# Altium integrated library Philips Discrete BJT - Low Power.IntLib: 311 symbols (part 1 of 5)
Pins are listed as number, name and electrical type; pins without a type are passive.

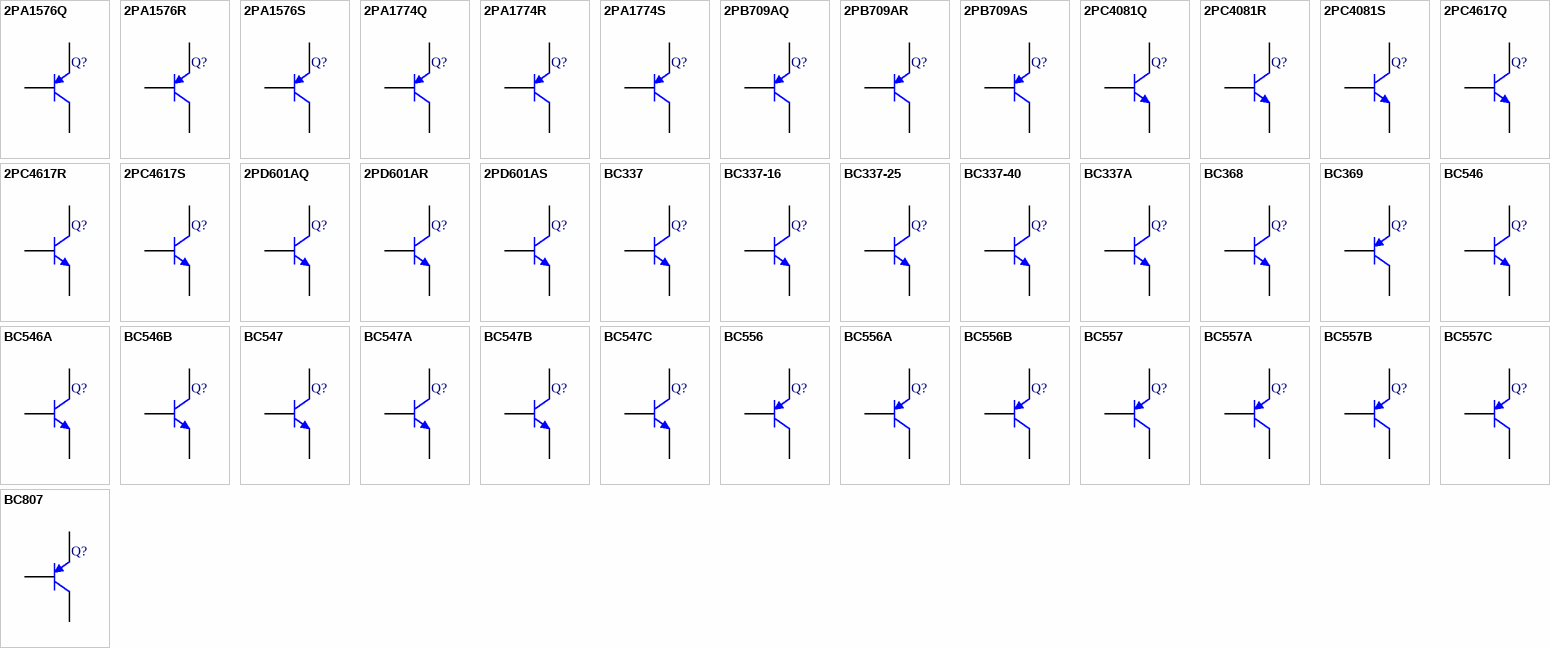
[diagram p0: symbols 2PA1576Q to BC807]

## 2PA1576Q
designator Q?
PNP General-purpose Transistor; Published: 17-Sep-2003; DatasheetVersion: 31-May-1999; PackageVersion: Apr-1999; PackageReference: SOT323; Publisher: Altium Limited; PackageDescription: SOT-323/SC-70; 3 Leads; Body 2.2 x 2.2 mm, inc. leads (LxW max); ComponentLink1Description: Manufacturer Link; ComponentLink1URL: http://www.semiconductors.philips.com/; ComponentLink2Description: Datasheet; ComponentLink2URL: http://www.semiconductors.philips.com/acrobat/datasheets/2PA1576_4.pdf
footprint SOT323 (SOT-323/SC-70; 3 Leads; Body 2.2 x 2.2 mm, inc. leads (LxW max))
simulation model Q2PA1576Q (PNP)
signal-integrity model 2PA1576Q
pins: 1 B, 2 E, 3 C

## 2PA1576R
designator Q?
PNP General-purpose Transistor; Published: 17-Sep-2003; DatasheetVersion: 31-May-1999; PackageVersion: Apr-1999; PackageReference: SOT323; Publisher: Altium Limited; PackageDescription: SOT-323/SC-70; 3 Leads; Body 2.2 x 2.2 mm, inc. leads (LxW max); ComponentLink1Description: Manufacturer Link; ComponentLink1URL: http://www.semiconductors.philips.com/; ComponentLink2Description: Datasheet; ComponentLink2URL: http://www.semiconductors.philips.com/acrobat/datasheets/2PA1576_4.pdf
footprint SOT323 (SOT-323/SC-70; 3 Leads; Body 2.2 x 2.2 mm, inc. leads (LxW max))
simulation model Q2PA1576R (PNP)
signal-integrity model 2PA1576R
pins: 1 B, 2 E, 3 C

## 2PA1576S
designator Q?
PNP General-purpose Transistor; Published: 17-Sep-2003; DatasheetVersion: 31-May-1999; PackageVersion: Apr-1999; PackageReference: SOT323; Publisher: Altium Limited; PackageDescription: SOT-323/SC-70; 3 Leads; Body 2.2 x 2.2 mm, inc. leads (LxW max); ComponentLink1Description: Manufacturer Link; ComponentLink1URL: http://www.semiconductors.philips.com/; ComponentLink2Description: Datasheet; ComponentLink2URL: http://www.semiconductors.philips.com/acrobat/datasheets/2PA1576_4.pdf
footprint SOT323 (SOT-323/SC-70; 3 Leads; Body 2.2 x 2.2 mm, inc. leads (LxW max))
simulation model Q2PA1576S (PNP)
signal-integrity model 2PA1576S
pins: 1 B, 2 E, 3 C

## 2PA1774Q
designator Q?
PNP General-purpose Transistor; Published: 17-Sep-2003; DatasheetVersion: 12-Dec-2000; PackageVersion: Apr-1999; PackageReference: SOT416; Publisher: Altium Limited; PackageDescription: SOT-416/SC-90/SC-75; 3 Leads; Body 1.8 x 1.8 mm, inc. leads (LxW max); ComponentLink1Description: Manufacturer Link; ComponentLink1URL: http://www.semiconductors.philips.com/; ComponentLink2Description: Datasheet; ComponentLink2URL: http://www.semiconductors.philips.com/acrobat/datasheets/2PA1774_3.pdf
footprint SOT416 (SOT-416/SC-90/SC-75; 3 Leads; Body 1.8 x 1.8 mm, inc. leads (LxW max))
simulation model Q2PA1774Q (PNP)
signal-integrity model 2PA1774Q
pins: 1 B, 2 E, 3 C

## 2PA1774R
designator Q?
PNP General-purpose Transistor; Published: 17-Sep-2003; DatasheetVersion: 12-Dec-2000; PackageVersion: Apr-1999; PackageReference: SOT416; Publisher: Altium Limited; PackageDescription: SOT-416/SC-90/SC-75; 3 Leads; Body 1.8 x 1.8 mm, inc. leads (LxW max); ComponentLink1Description: Manufacturer Link; ComponentLink1URL: http://www.semiconductors.philips.com/; ComponentLink2Description: Datasheet; ComponentLink2URL: http://www.semiconductors.philips.com/acrobat/datasheets/2PA1774_3.pdf
footprint SOT416 (SOT-416/SC-90/SC-75; 3 Leads; Body 1.8 x 1.8 mm, inc. leads (LxW max))
simulation model Q2PA1774R (PNP)
signal-integrity model 2PA1774R
pins: 1 B, 2 E, 3 C

## 2PA1774S
designator Q?
PNP General-purpose Transistor; Published: 17-Sep-2003; DatasheetVersion: 12-Dec-2000; PackageVersion: Apr-1999; PackageReference: SOT416; Publisher: Altium Limited; PackageDescription: SOT-416/SC-90/SC-75; 3 Leads; Body 1.8 x 1.8 mm, inc. leads (LxW max); ComponentLink1Description: Manufacturer Link; ComponentLink1URL: http://www.semiconductors.philips.com/; ComponentLink2Description: Datasheet; ComponentLink2URL: http://www.semiconductors.philips.com/acrobat/datasheets/2PA1774_3.pdf
footprint SOT416 (SOT-416/SC-90/SC-75; 3 Leads; Body 1.8 x 1.8 mm, inc. leads (LxW max))
simulation model Q2PA1774S (PNP)
signal-integrity model 2PA1774S
pins: 1 B, 2 E, 3 C

## 2PB709AQ
designator Q?
PNP General-purpose Transistor; Published: 17-Sep-2003; DatasheetVersion: 23-Apr-1999; PackageVersion: Apr-1999; PackageReference: SOT346; Publisher: Altium Limited; PackageDescription: SOT-23; 3 Leads; Body 3.1 x 3.0 mm, inc. leads (LxW max); Code_JEDEC: TO-236; ComponentLink1Description: Manufacturer Link; ComponentLink1URL: http://www.semiconductors.philips.com/; ComponentLink2Description: Datasheet; ComponentLink2URL: http://www.semiconductors.philips.com/acrobat/datasheets/2PB709A_4.pdf
footprint SOT346 (SOT-23; 3 Leads; Body 3.1 x 3.0 mm, inc. leads (LxW max))
signal-integrity model 2PB709AQ
pins: 1 B, 2 E, 3 C

## 2PB709AR
designator Q?
PNP General-purpose Transistor; Published: 17-Sep-2003; DatasheetVersion: 23-Apr-1999; PackageVersion: Apr-1999; PackageReference: SOT346; Publisher: Altium Limited; PackageDescription: SOT-23; 3 Leads; Body 3.1 x 3.0 mm, inc. leads (LxW max); Code_JEDEC: TO-236; ComponentLink1Description: Manufacturer Link; ComponentLink1URL: http://www.semiconductors.philips.com/; ComponentLink2Description: Datasheet; ComponentLink2URL: http://www.semiconductors.philips.com/acrobat/datasheets/2PB709A_4.pdf
footprint SOT346 (SOT-23; 3 Leads; Body 3.1 x 3.0 mm, inc. leads (LxW max))
simulation model 2PB709AR (SUBCKT)
signal-integrity model 2PB709AR
pins: 1 B, 2 E, 3 C

## 2PB709AS
designator Q?
PNP General-purpose Transistor; Published: 17-Sep-2003; DatasheetVersion: 23-Apr-1999; PackageVersion: Apr-1999; PackageReference: SOT346; Publisher: Altium Limited; PackageDescription: SOT-23; 3 Leads; Body 3.1 x 3.0 mm, inc. leads (LxW max); Code_JEDEC: TO-236; ComponentLink1Description: Manufacturer Link; ComponentLink1URL: http://www.semiconductors.philips.com/; ComponentLink2Description: Datasheet; ComponentLink2URL: http://www.semiconductors.philips.com/acrobat/datasheets/2PB709A_4.pdf
footprint SOT346 (SOT-23; 3 Leads; Body 3.1 x 3.0 mm, inc. leads (LxW max))
signal-integrity model 2PB709AS
pins: 1 B, 2 E, 3 C

## 2PC4081Q
designator Q?
NPN General-purpose Transistor; Published: 17-Sep-2003; DatasheetVersion: 8-Apr-1999; PackageVersion: Apr-1999; PackageReference: SOT323; Publisher: Altium Limited; PackageDescription: SOT-323/SC-70; 3 Leads; Body 2.2 x 2.2 mm, inc. leads (LxW max); ComponentLink1Description: Manufacturer Link; ComponentLink1URL: http://www.semiconductors.philips.com/; ComponentLink2Description: Datasheet; ComponentLink2URL: http://www.semiconductors.philips.com/acrobat/datasheets/2PC4081_4.pdf
footprint SOT323 (SOT-323/SC-70; 3 Leads; Body 2.2 x 2.2 mm, inc. leads (LxW max))
simulation model Q2PC4081Q (NPN)
signal-integrity model 2PC4081Q
pins: 1 B, 2 E, 3 C

## 2PC4081R
designator Q?
NPN General-purpose Transistor; Published: 17-Sep-2003; DatasheetVersion: 8-Apr-1999; PackageVersion: Apr-1999; PackageReference: SOT323; Publisher: Altium Limited; PackageDescription: SOT-323/SC-70; 3 Leads; Body 2.2 x 2.2 mm, inc. leads (LxW max); ComponentLink1Description: Manufacturer Link; ComponentLink1URL: http://www.semiconductors.philips.com/; ComponentLink2Description: Datasheet; ComponentLink2URL: http://www.semiconductors.philips.com/acrobat/datasheets/2PC4081_4.pdf
footprint SOT323 (SOT-323/SC-70; 3 Leads; Body 2.2 x 2.2 mm, inc. leads (LxW max))
simulation model Q2PC4081R (NPN)
signal-integrity model 2PC4081R
pins: 1 B, 2 E, 3 C

## 2PC4081S
designator Q?
NPN General-purpose Transistor; Published: 17-Sep-2003; DatasheetVersion: 8-Apr-1999; PackageVersion: Apr-1999; PackageReference: SOT323; Publisher: Altium Limited; PackageDescription: SOT-323/SC-70; 3 Leads; Body 2.2 x 2.2 mm, inc. leads (LxW max); ComponentLink1Description: Manufacturer Link; ComponentLink1URL: http://www.semiconductors.philips.com/; ComponentLink2Description: Datasheet; ComponentLink2URL: http://www.semiconductors.philips.com/acrobat/datasheets/2PC4081_4.pdf
footprint SOT323 (SOT-323/SC-70; 3 Leads; Body 2.2 x 2.2 mm, inc. leads (LxW max))
simulation model Q2PC4081S (NPN)
signal-integrity model 2PC4081S
pins: 1 B, 2 E, 3 C

## 2PC4617Q
designator Q?
NPN General-purpose Transistor; Published: 17-Sep-2003; DatasheetVersion: 21-May-1999; PackageVersion: Apr-1999; PackageReference: SOT416; Publisher: Altium Limited; PackageDescription: SOT-416/SC-90/SC-75; 3 Leads; Body 1.8 x 1.8 mm, inc. leads (LxW max); ComponentLink1Description: Manufacturer Link; ComponentLink1URL: http://www.semiconductors.philips.com/; ComponentLink2Description: Datasheet; ComponentLink2URL: http://www.semiconductors.philips.com/acrobat/datasheets/2PC4617_3.pdf
footprint SOT416 (SOT-416/SC-90/SC-75; 3 Leads; Body 1.8 x 1.8 mm, inc. leads (LxW max))
simulation model Q2PC4617Q (NPN)
signal-integrity model 2PC4617Q
pins: 1 B, 2 E, 3 C

## 2PC4617R
designator Q?
NPN General-purpose Transistor; Published: 17-Sep-2003; DatasheetVersion: 21-May-1999; PackageVersion: Apr-1999; PackageReference: SOT416; Publisher: Altium Limited; PackageDescription: SOT-416/SC-90/SC-75; 3 Leads; Body 1.8 x 1.8 mm, inc. leads (LxW max); ComponentLink1Description: Manufacturer Link; ComponentLink1URL: http://www.semiconductors.philips.com/; ComponentLink2Description: Datasheet; ComponentLink2URL: http://www.semiconductors.philips.com/acrobat/datasheets/2PC4617_3.pdf
footprint SOT416 (SOT-416/SC-90/SC-75; 3 Leads; Body 1.8 x 1.8 mm, inc. leads (LxW max))
simulation model Q2PC4617R (NPN)
signal-integrity model 2PC4617R
pins: 1 B, 2 E, 3 C

## 2PC4617S
designator Q?
NPN General-purpose Transistor; Published: 17-Sep-2003; DatasheetVersion: 21-May-1999; PackageVersion: Apr-1999; PackageReference: SOT416; Publisher: Altium Limited; PackageDescription: SOT-416/SC-90/SC-75; 3 Leads; Body 1.8 x 1.8 mm, inc. leads (LxW max); ComponentLink1Description: Manufacturer Link; ComponentLink1URL: http://www.semiconductors.philips.com/; ComponentLink2Description: Datasheet; ComponentLink2URL: http://www.semiconductors.philips.com/acrobat/datasheets/2PC4617_3.pdf
footprint SOT416 (SOT-416/SC-90/SC-75; 3 Leads; Body 1.8 x 1.8 mm, inc. leads (LxW max))
simulation model Q2PC4617S (NPN)
signal-integrity model 2PC4617S
pins: 1 B, 2 E, 3 C

## 2PD601AQ
designator Q?
NPN General-purpose Transistor; Published: 17-Sep-2003; DatasheetVersion: 19-Nov-2001; PackageVersion: Apr-1999; PackageReference: SOT346; Publisher: Altium Limited; PackageDescription: SOT-23; 3 Leads; Body 3.1 x 3.0 mm, inc. leads (LxW max); Code_JEDEC: TO-236; ComponentLink1Description: Manufacturer Link; ComponentLink1URL: http://www.semiconductors.philips.com/; ComponentLink2Description: Datasheet; ComponentLink2URL: http://www.semiconductors.philips.com/acrobat/datasheets/2PD601A_SER_6.pdf
footprint SOT346 (SOT-23; 3 Leads; Body 3.1 x 3.0 mm, inc. leads (LxW max))
signal-integrity model 2PD601AQ
pins: 1 B, 2 E, 3 C

## 2PD601AR
designator Q?
NPN General-purpose Transistor; Published: 17-Sep-2003; DatasheetVersion: 19-Nov-2001; PackageVersion: Apr-1999; PackageReference: SOT346; Publisher: Altium Limited; PackageDescription: SOT-23; 3 Leads; Body 3.1 x 3.0 mm, inc. leads (LxW max); Code_JEDEC: TO-236; ComponentLink1Description: Manufacturer Link; ComponentLink1URL: http://www.semiconductors.philips.com/; ComponentLink2Description: Datasheet; ComponentLink2URL: http://www.semiconductors.philips.com/acrobat/datasheets/2PD601A_SER_6.pdf
footprint SOT346 (SOT-23; 3 Leads; Body 3.1 x 3.0 mm, inc. leads (LxW max))
simulation model 2PD601AR (SUBCKT)
signal-integrity model 2PD601AR
pins: 1 B, 2 E, 3 C

## 2PD601AS
designator Q?
NPN General-purpose Transistor; Published: 17-Sep-2003; DatasheetVersion: 19-Nov-2001; PackageVersion: Apr-1999; PackageReference: SOT346; Publisher: Altium Limited; PackageDescription: SOT-23; 3 Leads; Body 3.1 x 3.0 mm, inc. leads (LxW max); Code_JEDEC: TO-236; ComponentLink1Description: Manufacturer Link; ComponentLink1URL: http://www.semiconductors.philips.com/; ComponentLink2Description: Datasheet; ComponentLink2URL: http://www.semiconductors.philips.com/acrobat/datasheets/2PD601A_SER_6.pdf
footprint SOT346 (SOT-23; 3 Leads; Body 3.1 x 3.0 mm, inc. leads (LxW max))
signal-integrity model 2PD601AS
pins: 1 B, 2 E, 3 C

## BC337
designator Q?
NPN General-purpose Transistor; Published: 17-Sep-2003; DatasheetVersion: 15-Apr-1999; PackageVersion: rev3, May-2000; PackageReference: SOT54; Publisher: Altium Limited; PackageDescription: TO, Flat Index; 3 In-Line, Axial Leads; Body Dia. 4.6mm; Leads 0.48 x 0.45 mm (max); Code_JEDEC: TO-92; ComponentLink1Description: Manufacturer Link; ComponentLink1URL: http://www.semiconductors.philips.com/; ComponentLink2Description: Datasheet; ComponentLink2URL: http://www.semiconductors.philips.com/acrobat/datasheets/BC817_BC817W_BC337_5.pdf
footprint SOT54 (TO, Flat Index; 3 In-Line, Axial Leads; Body Dia. 4.6mm; Leads 0.48 x 0.45 mm (max))
simulation model QBC337 (NPN)
signal-integrity model BC337
pins: 1 E, 2 B, 3 C

## BC337-16
designator Q?
NPN General-purpose Transistor; Published: 17-Sep-2003; DatasheetVersion: 15-Apr-1999; PackageVersion: rev3, May-2000; PackageReference: SOT54; Publisher: Altium Limited; PackageDescription: TO, Flat Index; 3 In-Line, Axial Leads; Body Dia. 4.6mm; Leads 0.48 x 0.45 mm (max); Code_JEDEC: TO-92; ComponentLink1Description: Manufacturer Link; ComponentLink1URL: http://www.semiconductors.philips.com/; ComponentLink2Description: Datasheet; ComponentLink2URL: http://www.semiconductors.philips.com/acrobat/datasheets/BC817_BC817W_BC337_5.pdf
footprint SOT54 (TO, Flat Index; 3 In-Line, Axial Leads; Body Dia. 4.6mm; Leads 0.48 x 0.45 mm (max))
simulation model QBC337-16 (NPN)
signal-integrity model BC337-16
pins: 1 E, 2 B, 3 C

## BC337-25
designator Q?
NPN General-purpose Transistor; Published: 17-Sep-2003; DatasheetVersion: 15-Apr-1999; PackageVersion: rev3, May-2000; PackageReference: SOT54; Publisher: Altium Limited; PackageDescription: TO, Flat Index; 3 In-Line, Axial Leads; Body Dia. 4.6mm; Leads 0.48 x 0.45 mm (max); Code_JEDEC: TO-92; ComponentLink1Description: Manufacturer Link; ComponentLink1URL: http://www.semiconductors.philips.com/; ComponentLink2Description: Datasheet; ComponentLink2URL: http://www.semiconductors.philips.com/acrobat/datasheets/BC817_BC817W_BC337_5.pdf
footprint SOT54 (TO, Flat Index; 3 In-Line, Axial Leads; Body Dia. 4.6mm; Leads 0.48 x 0.45 mm (max))
simulation model QBC337-25 (NPN)
signal-integrity model BC337-25
pins: 1 E, 2 B, 3 C

## BC337-40
designator Q?
NPN General-purpose Transistor; Published: 17-Sep-2003; DatasheetVersion: 15-Apr-1999; PackageVersion: rev3, May-2000; PackageReference: SOT54; Publisher: Altium Limited; PackageDescription: TO, Flat Index; 3 In-Line, Axial Leads; Body Dia. 4.6mm; Leads 0.48 x 0.45 mm (max); Code_JEDEC: TO-92; ComponentLink1Description: Manufacturer Link; ComponentLink1URL: http://www.semiconductors.philips.com/; ComponentLink2Description: Datasheet; ComponentLink2URL: http://www.semiconductors.philips.com/acrobat/datasheets/BC817_BC817W_BC337_5.pdf
footprint SOT54 (TO, Flat Index; 3 In-Line, Axial Leads; Body Dia. 4.6mm; Leads 0.48 x 0.45 mm (max))
simulation model QBC337-40 (NPN)
signal-integrity model BC337-40
pins: 1 E, 2 B, 3 C

## BC337A
designator Q?
NPN General-purpose Transistor; Published: 17-Sep-2003; DatasheetVersion: 15-Apr-1999; PackageVersion: rev3, May-2000; PackageReference: SOT54; Publisher: Altium Limited; PackageDescription: TO, Flat Index; 3 In-Line, Axial Leads; Body Dia. 4.6mm; Leads 0.48 x 0.45 mm (max); Code_JEDEC: TO-92; ComponentLink1Description: Manufacturer Link; ComponentLink1URL: http://www.semiconductors.philips.com/; ComponentLink2Description: Datasheet; ComponentLink2URL: http://www.semiconductors.philips.com/acrobat/datasheets/BC817_BC817W_BC337_5.pdf
footprint SOT54 (TO, Flat Index; 3 In-Line, Axial Leads; Body Dia. 4.6mm; Leads 0.48 x 0.45 mm (max))
simulation model QBC337A (NPN)
signal-integrity model BC337A
pins: 1 E, 2 B, 3 C

## BC368
designator Q?
NPN General-purpose Transistor; Published: 17-Sep-2003; DatasheetVersion: 26-Apr-1999; PackageVersion: rev3, May-2000; PackageReference: SOT54; Publisher: Altium Limited; PackageDescription: TO, Flat Index; 3 In-Line, Axial Leads; Body Dia. 4.6mm; Leads 0.48 x 0.45 mm (max); Code_JEDEC: TO-92; ComponentLink1Description: Manufacturer Link; ComponentLink1URL: http://www.semiconductors.philips.com/; ComponentLink2Description: Datasheet; ComponentLink2URL: http://www.semiconductors.philips.com/acrobat/datasheets/BC368_3.pdf
footprint SOT54 (TO, Flat Index; 3 In-Line, Axial Leads; Body Dia. 4.6mm; Leads 0.48 x 0.45 mm (max))
simulation model QBC368 (NPN)
signal-integrity model BC368
pins: 1 B, 2 C, 3 E

## BC369
designator Q?
PNP General-purpose Transistor; Published: 17-Sep-2003; DatasheetVersion: 26-Apr-1999; PackageVersion: rev3, May-2000; PackageReference: SOT54; Publisher: Altium Limited; PackageDescription: TO, Flat Index; 3 In-Line, Axial Leads; Body Dia. 4.6mm; Leads 0.48 x 0.45 mm (max); Code_JEDEC: TO-92; ComponentLink1Description: Manufacturer Link; ComponentLink1URL: http://www.semiconductors.philips.com/; ComponentLink2Description: Datasheet; ComponentLink2URL: http://www.semiconductors.philips.com/acrobat/datasheets/BC369_3.pdf
footprint SOT54 (TO, Flat Index; 3 In-Line, Axial Leads; Body Dia. 4.6mm; Leads 0.48 x 0.45 mm (max))
simulation model QBC369 (PNP)
signal-integrity model BC369
pins: 1 B, 2 C, 3 E

## BC546
designator Q?
NPN General-purpose Transistor; Published: 17-Sep-2003; DatasheetVersion: 15-Apr-1999; PackageVersion: rev3, May-2000; PackageReference: SOT54; Publisher: Altium Limited; PackageDescription: TO, Flat Index; 3 In-Line, Axial Leads; Body Dia. 4.6mm; Leads 0.48 x 0.45 mm (max); Code_JEDEC: TO-92; ComponentLink1Description: Manufacturer Link; ComponentLink1URL: http://www.semiconductors.philips.com/; ComponentLink2Description: Datasheet; ComponentLink2URL: http://www.semiconductors.philips.com/acrobat/datasheets/BC546_547_3.pdf
footprint SOT54 (TO, Flat Index; 3 In-Line, Axial Leads; Body Dia. 4.6mm; Leads 0.48 x 0.45 mm (max))
signal-integrity model BC546
pins: 1 E, 2 B, 3 C

## BC546A
designator Q?
NPN General-purpose Transistor; Published: 17-Sep-2003; DatasheetVersion: 15-Apr-1999; PackageVersion: rev3, May-2000; PackageReference: SOT54; Publisher: Altium Limited; PackageDescription: TO, Flat Index; 3 In-Line, Axial Leads; Body Dia. 4.6mm; Leads 0.48 x 0.45 mm (max); Code_JEDEC: TO-92; ComponentLink1Description: Manufacturer Link; ComponentLink1URL: http://www.semiconductors.philips.com/; ComponentLink2Description: Datasheet; ComponentLink2URL: http://www.semiconductors.philips.com/acrobat/datasheets/BC546_547_3.pdf
footprint SOT54 (TO, Flat Index; 3 In-Line, Axial Leads; Body Dia. 4.6mm; Leads 0.48 x 0.45 mm (max))
simulation model QBC546A (NPN)
signal-integrity model BC546A
pins: 1 E, 2 B, 3 C

## BC546B
designator Q?
NPN General-purpose Transistor; Published: 17-Sep-2003; DatasheetVersion: 15-Apr-1999; PackageVersion: rev3, May-2000; PackageReference: SOT54; Publisher: Altium Limited; PackageDescription: TO, Flat Index; 3 In-Line, Axial Leads; Body Dia. 4.6mm; Leads 0.48 x 0.45 mm (max); Code_JEDEC: TO-92; ComponentLink1Description: Manufacturer Link; ComponentLink1URL: http://www.semiconductors.philips.com/; ComponentLink2Description: Datasheet; ComponentLink2URL: http://www.semiconductors.philips.com/acrobat/datasheets/BC546_547_3.pdf
footprint SOT54 (TO, Flat Index; 3 In-Line, Axial Leads; Body Dia. 4.6mm; Leads 0.48 x 0.45 mm (max))
simulation model QBC546B (NPN)
signal-integrity model BC546B
pins: 1 E, 2 B, 3 C

## BC547
designator Q?
NPN General-purpose Transistor; Published: 17-Sep-2003; DatasheetVersion: 15-Apr-1999; PackageVersion: rev3, May-2000; PackageReference: SOT54; Publisher: Altium Limited; PackageDescription: TO, Flat Index; 3 In-Line, Axial Leads; Body Dia. 4.6mm; Leads 0.48 x 0.45 mm (max); Code_JEDEC: TO-92; ComponentLink1Description: Manufacturer Link; ComponentLink1URL: http://www.semiconductors.philips.com/; ComponentLink2Description: Datasheet; ComponentLink2URL: http://www.semiconductors.philips.com/acrobat/datasheets/BC546_547_3.pdf
footprint SOT54 (TO, Flat Index; 3 In-Line, Axial Leads; Body Dia. 4.6mm; Leads 0.48 x 0.45 mm (max))
signal-integrity model BC547
pins: 1 E, 2 B, 3 C

## BC547A
designator Q?
NPN General-purpose Transistor; Published: 17-Sep-2003; DatasheetVersion: 15-Apr-1999; PackageVersion: rev3, May-2000; PackageReference: SOT54; Publisher: Altium Limited; PackageDescription: TO, Flat Index; 3 In-Line, Axial Leads; Body Dia. 4.6mm; Leads 0.48 x 0.45 mm (max); Code_JEDEC: TO-92; ComponentLink1Description: Manufacturer Link; ComponentLink1URL: http://www.semiconductors.philips.com/; ComponentLink2Description: Datasheet; ComponentLink2URL: http://www.semiconductors.philips.com/acrobat/datasheets/BC546_547_3.pdf
footprint SOT54 (TO, Flat Index; 3 In-Line, Axial Leads; Body Dia. 4.6mm; Leads 0.48 x 0.45 mm (max))
simulation model QBC547A (NPN)
signal-integrity model BC547A
pins: 1 E, 2 B, 3 C

## BC547B
designator Q?
NPN General-purpose Transistor; Published: 17-Sep-2003; DatasheetVersion: 15-Apr-1999; PackageVersion: rev3, May-2000; PackageReference: SOT54; Publisher: Altium Limited; PackageDescription: TO, Flat Index; 3 In-Line, Axial Leads; Body Dia. 4.6mm; Leads 0.48 x 0.45 mm (max); Code_JEDEC: TO-92; ComponentLink1Description: Manufacturer Link; ComponentLink1URL: http://www.semiconductors.philips.com/; ComponentLink2Description: Datasheet; ComponentLink2URL: http://www.semiconductors.philips.com/acrobat/datasheets/BC546_547_3.pdf
footprint SOT54 (TO, Flat Index; 3 In-Line, Axial Leads; Body Dia. 4.6mm; Leads 0.48 x 0.45 mm (max))
simulation model QBC547B (NPN)
signal-integrity model BC547B
pins: 1 E, 2 B, 3 C

## BC547C
designator Q?
NPN General-purpose Transistor; Published: 17-Sep-2003; DatasheetVersion: 15-Apr-1999; PackageVersion: rev3, May-2000; PackageReference: SOT54; Publisher: Altium Limited; PackageDescription: TO, Flat Index; 3 In-Line, Axial Leads; Body Dia. 4.6mm; Leads 0.48 x 0.45 mm (max); Code_JEDEC: TO-92; ComponentLink1Description: Manufacturer Link; ComponentLink1URL: http://www.semiconductors.philips.com/; ComponentLink2Description: Datasheet; ComponentLink2URL: http://www.semiconductors.philips.com/acrobat/datasheets/BC546_547_3.pdf
footprint SOT54 (TO, Flat Index; 3 In-Line, Axial Leads; Body Dia. 4.6mm; Leads 0.48 x 0.45 mm (max))
simulation model QBC547C (NPN)
signal-integrity model BC547C
pins: 1 E, 2 B, 3 C

## BC556
designator Q?
PNP General-purpose Transistor; Published: 17-Sep-2003; DatasheetVersion: 15-Apr-1999; PackageVersion: rev3, May-2000; PackageReference: SOT54; Publisher: Altium Limited; PackageDescription: TO, Flat Index; 3 In-Line, Axial Leads; Body Dia. 4.6mm; Leads 0.48 x 0.45 mm (max); Code_JEDEC: TO-92; ComponentLink1Description: Manufacturer Link; ComponentLink1URL: http://www.semiconductors.philips.com/; ComponentLink2Description: Datasheet; ComponentLink2URL: http://www.semiconductors.philips.com/acrobat/datasheets/BC556_557_3.pdf
footprint SOT54 (TO, Flat Index; 3 In-Line, Axial Leads; Body Dia. 4.6mm; Leads 0.48 x 0.45 mm (max))
signal-integrity model BC556
pins: 1 E, 2 B, 3 C

## BC556A
designator Q?
PNP General-purpose Transistor; Published: 17-Sep-2003; DatasheetVersion: 15-Apr-1999; PackageVersion: rev3, May-2000; PackageReference: SOT54; Publisher: Altium Limited; PackageDescription: TO, Flat Index; 3 In-Line, Axial Leads; Body Dia. 4.6mm; Leads 0.48 x 0.45 mm (max); Code_JEDEC: TO-92; ComponentLink1Description: Manufacturer Link; ComponentLink1URL: http://www.semiconductors.philips.com/; ComponentLink2Description: Datasheet; ComponentLink2URL: http://www.semiconductors.philips.com/acrobat/datasheets/BC556_557_3.pdf
footprint SOT54 (TO, Flat Index; 3 In-Line, Axial Leads; Body Dia. 4.6mm; Leads 0.48 x 0.45 mm (max))
simulation model QBC556A (PNP)
signal-integrity model BC556A
pins: 1 E, 2 B, 3 C

## BC556B
designator Q?
PNP General-purpose Transistor; Published: 17-Sep-2003; DatasheetVersion: 15-Apr-1999; PackageVersion: rev3, May-2000; PackageReference: SOT54; Publisher: Altium Limited; PackageDescription: TO, Flat Index; 3 In-Line, Axial Leads; Body Dia. 4.6mm; Leads 0.48 x 0.45 mm (max); Code_JEDEC: TO-92; ComponentLink1Description: Manufacturer Link; ComponentLink1URL: http://www.semiconductors.philips.com/; ComponentLink2Description: Datasheet; ComponentLink2URL: http://www.semiconductors.philips.com/acrobat/datasheets/BC556_557_3.pdf
footprint SOT54 (TO, Flat Index; 3 In-Line, Axial Leads; Body Dia. 4.6mm; Leads 0.48 x 0.45 mm (max))
simulation model QBC556B (PNP)
signal-integrity model BC556B
pins: 1 E, 2 B, 3 C

## BC557
designator Q?
PNP General-purpose Transistor; Published: 17-Sep-2003; DatasheetVersion: 15-Apr-1999; PackageVersion: rev3, May-2000; PackageReference: SOT54; Publisher: Altium Limited; PackageDescription: TO, Flat Index; 3 In-Line, Axial Leads; Body Dia. 4.6mm; Leads 0.48 x 0.45 mm (max); Code_JEDEC: TO-92; ComponentLink1Description: Manufacturer Link; ComponentLink1URL: http://www.semiconductors.philips.com/; ComponentLink2Description: Datasheet; ComponentLink2URL: http://www.semiconductors.philips.com/acrobat/datasheets/BC556_557_3.pdf
footprint SOT54 (TO, Flat Index; 3 In-Line, Axial Leads; Body Dia. 4.6mm; Leads 0.48 x 0.45 mm (max))
signal-integrity model BC557
pins: 1 E, 2 B, 3 C

## BC557A
designator Q?
PNP General-purpose Transistor; Published: 17-Sep-2003; DatasheetVersion: 15-Apr-1999; PackageVersion: rev3, May-2000; PackageReference: SOT54; Publisher: Altium Limited; PackageDescription: TO, Flat Index; 3 In-Line, Axial Leads; Body Dia. 4.6mm; Leads 0.48 x 0.45 mm (max); Code_JEDEC: TO-92; ComponentLink1Description: Manufacturer Link; ComponentLink1URL: http://www.semiconductors.philips.com/; ComponentLink2Description: Datasheet; ComponentLink2URL: http://www.semiconductors.philips.com/acrobat/datasheets/BC556_557_3.pdf
footprint SOT54 (TO, Flat Index; 3 In-Line, Axial Leads; Body Dia. 4.6mm; Leads 0.48 x 0.45 mm (max))
simulation model QBC557A (PNP)
signal-integrity model BC557A
pins: 1 E, 2 B, 3 C

## BC557B
designator Q?
PNP General-purpose Transistor; Published: 17-Sep-2003; DatasheetVersion: 15-Apr-1999; PackageVersion: rev3, May-2000; PackageReference: SOT54; Publisher: Altium Limited; PackageDescription: TO, Flat Index; 3 In-Line, Axial Leads; Body Dia. 4.6mm; Leads 0.48 x 0.45 mm (max); Code_JEDEC: TO-92; ComponentLink1Description: Manufacturer Link; ComponentLink1URL: http://www.semiconductors.philips.com/; ComponentLink2Description: Datasheet; ComponentLink2URL: http://www.semiconductors.philips.com/acrobat/datasheets/BC556_557_3.pdf
footprint SOT54 (TO, Flat Index; 3 In-Line, Axial Leads; Body Dia. 4.6mm; Leads 0.48 x 0.45 mm (max))
simulation model QBC557B (PNP)
signal-integrity model BC557B
pins: 1 E, 2 B, 3 C

## BC557C
designator Q?
PNP General-purpose Transistor; Published: 17-Sep-2003; DatasheetVersion: 15-Apr-1999; PackageVersion: rev3, May-2000; PackageReference: SOT54; Publisher: Altium Limited; PackageDescription: TO, Flat Index; 3 In-Line, Axial Leads; Body Dia. 4.6mm; Leads 0.48 x 0.45 mm (max); Code_JEDEC: TO-92; ComponentLink1Description: Manufacturer Link; ComponentLink1URL: http://www.semiconductors.philips.com/; ComponentLink2Description: Datasheet; ComponentLink2URL: http://www.semiconductors.philips.com/acrobat/datasheets/BC556_557_3.pdf
footprint SOT54 (TO, Flat Index; 3 In-Line, Axial Leads; Body Dia. 4.6mm; Leads 0.48 x 0.45 mm (max))
simulation model QBC557C (PNP)
signal-integrity model BC557C
pins: 1 E, 2 B, 3 C

## BC807
designator Q?
PNP General-purpose Transistor; Published: 17-Sep-2003; DatasheetVersion: 8-Apr-1999; PackageVersion: May-1999; PackageReference: SOT23; Publisher: Altium Limited; PackageDescription: SOT-23; 3 Leads; Body 3.0 x 2.5 mm, inc. leads (LxW max); ComponentLink1Description: Manufacturer Link; ComponentLink1URL: http://www.semiconductors.philips.com/; ComponentLink2Description: Datasheet; ComponentLink2URL: http://www.semiconductors.philips.com/acrobat/datasheets/BC807_BC807W_BC327_5.pdf
footprint SOT23 (SOT-23; 3 Leads; Body 3.0 x 2.5 mm, inc. leads (LxW max))
simulation model QBC807 (PNP)
signal-integrity model BC807
pins: 1 B, 2 E, 3 C

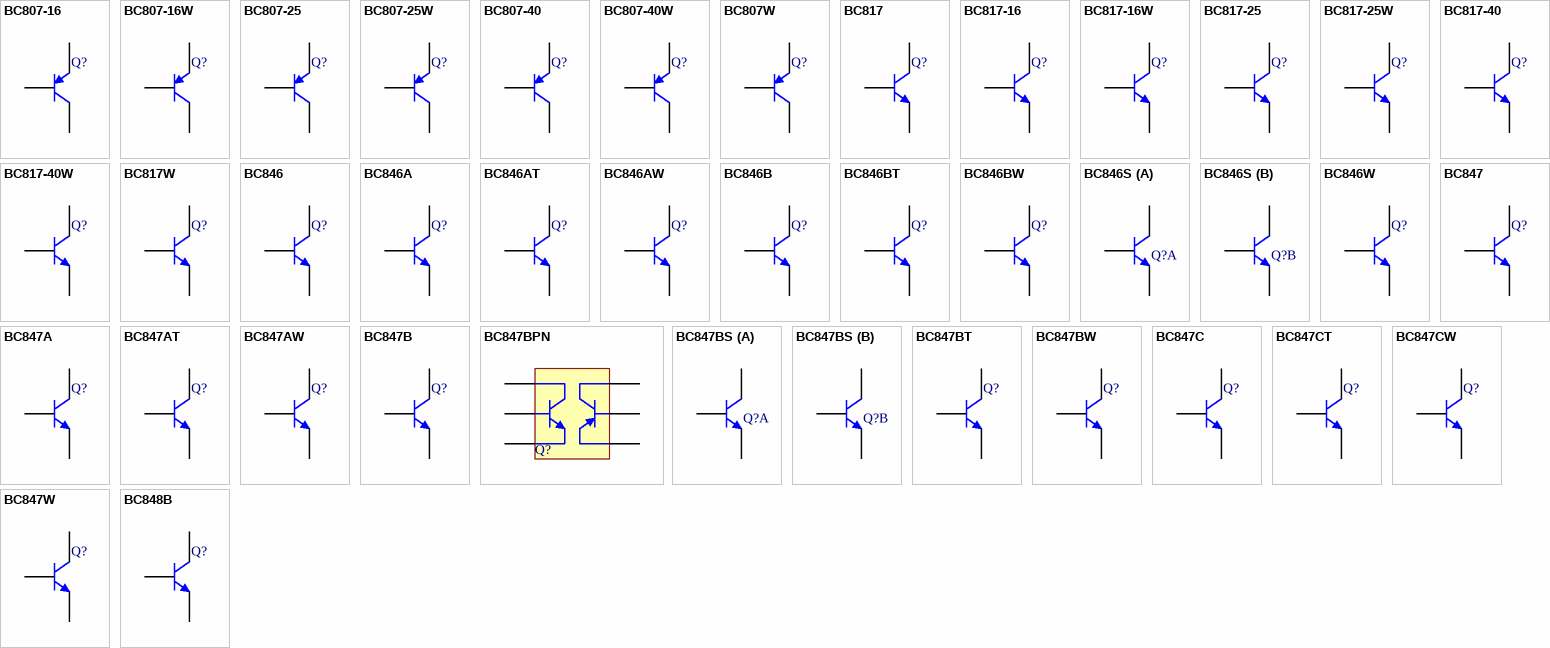
[diagram p1: symbols BC807-16 to BC848B]

## BC807-16
designator Q?
PNP General-purpose Transistor; Published: 17-Sep-2003; DatasheetVersion: 8-Apr-1999; PackageVersion: May-1999; PackageReference: SOT23; Publisher: Altium Limited; PackageDescription: SOT-23; 3 Leads; Body 3.0 x 2.5 mm, inc. leads (LxW max); ComponentLink1Description: Manufacturer Link; ComponentLink1URL: http://www.semiconductors.philips.com/; ComponentLink2Description: Datasheet; ComponentLink2URL: http://www.semiconductors.philips.com/acrobat/datasheets/BC807_BC807W_BC327_5.pdf
footprint SOT23 (SOT-23; 3 Leads; Body 3.0 x 2.5 mm, inc. leads (LxW max))
signal-integrity model BC807-16
pins: 1 B, 2 E, 3 C

## BC807-16W
designator Q?
PNP General-purpose Transistor; Published: 17-Sep-2003; DatasheetVersion: 18-May-1999; PackageVersion: Apr-1999; PackageReference: SOT323; Publisher: Altium Limited; PackageDescription: SOT-323/SC-70; 3 Leads; Body 2.2 x 2.2 mm, inc. leads (LxW max); ComponentLink1Description: Manufacturer Link; ComponentLink1URL: http://www.semiconductors.philips.com/; ComponentLink2Description: Datasheet; ComponentLink2URL: http://www.semiconductors.philips.com/acrobat/datasheets/BC807_BC807W_BC327_5.pdf
footprint SOT323 (SOT-323/SC-70; 3 Leads; Body 2.2 x 2.2 mm, inc. leads (LxW max))
signal-integrity model BC807-16W
pins: 1 B, 2 E, 3 C

## BC807-25
designator Q?
PNP General-purpose Transistor; Published: 17-Sep-2003; DatasheetVersion: 8-Apr-1999; PackageVersion: May-1999; PackageReference: SOT23; Publisher: Altium Limited; PackageDescription: SOT-23; 3 Leads; Body 3.0 x 2.5 mm, inc. leads (LxW max); ComponentLink1Description: Manufacturer Link; ComponentLink1URL: http://www.semiconductors.philips.com/; ComponentLink2Description: Datasheet; ComponentLink2URL: http://www.semiconductors.philips.com/acrobat/datasheets/BC807_BC807W_BC327_5.pdf
footprint SOT23 (SOT-23; 3 Leads; Body 3.0 x 2.5 mm, inc. leads (LxW max))
simulation model QBC807-25 (PNP)
signal-integrity model BC807-25
pins: 1 B, 2 E, 3 C

## BC807-25W
designator Q?
PNP General-purpose Transistor; Published: 17-Sep-2003; DatasheetVersion: 18-May-1999; PackageVersion: Apr-1999; PackageReference: SOT323; Publisher: Altium Limited; PackageDescription: SOT-323/SC-70; 3 Leads; Body 2.2 x 2.2 mm, inc. leads (LxW max); ComponentLink1Description: Manufacturer Link; ComponentLink1URL: http://www.semiconductors.philips.com/; ComponentLink2Description: Datasheet; ComponentLink2URL: http://www.semiconductors.philips.com/acrobat/datasheets/BC807_BC807W_BC327_5.pdf
footprint SOT323 (SOT-323/SC-70; 3 Leads; Body 2.2 x 2.2 mm, inc. leads (LxW max))
simulation model QBC807-25W (PNP)
signal-integrity model BC807-25W
pins: 1 B, 2 E, 3 C

## BC807-40
designator Q?
PNP General-purpose Transistor; Published: 17-Sep-2003; DatasheetVersion: 8-Apr-1999; PackageVersion: May-1999; PackageReference: SOT23; Publisher: Altium Limited; PackageDescription: SOT-23; 3 Leads; Body 3.0 x 2.5 mm, inc. leads (LxW max); ComponentLink1Description: Manufacturer Link; ComponentLink1URL: http://www.semiconductors.philips.com/; ComponentLink2Description: Datasheet; ComponentLink2URL: http://www.semiconductors.philips.com/acrobat/datasheets/BC807_BC807W_BC327_5.pdf
footprint SOT23 (SOT-23; 3 Leads; Body 3.0 x 2.5 mm, inc. leads (LxW max))
simulation model QBC807-40 (PNP)
signal-integrity model BC807-40
pins: 1 B, 2 E, 3 C

## BC807-40W
designator Q?
PNP General-purpose Transistor; Published: 17-Sep-2003; DatasheetVersion: 18-May-1999; PackageVersion: Apr-1999; PackageReference: SOT323; Publisher: Altium Limited; PackageDescription: SOT-323/SC-70; 3 Leads; Body 2.2 x 2.2 mm, inc. leads (LxW max); ComponentLink1Description: Manufacturer Link; ComponentLink1URL: http://www.semiconductors.philips.com/; ComponentLink2Description: Datasheet; ComponentLink2URL: http://www.semiconductors.philips.com/acrobat/datasheets/BC807_BC807W_BC327_5.pdf
footprint SOT323 (SOT-323/SC-70; 3 Leads; Body 2.2 x 2.2 mm, inc. leads (LxW max))
simulation model QBC807-40W (PNP)
signal-integrity model BC807-40W
pins: 1 B, 2 E, 3 C

## BC807W
designator Q?
PNP General-purpose Transistor; Published: 17-Sep-2003; DatasheetVersion: 18-May-1999; PackageVersion: Apr-1999; PackageReference: SOT323; Publisher: Altium Limited; PackageDescription: SOT-323/SC-70; 3 Leads; Body 2.2 x 2.2 mm, inc. leads (LxW max); ComponentLink1Description: Manufacturer Link; ComponentLink1URL: http://www.semiconductors.philips.com/; ComponentLink2Description: Datasheet; ComponentLink2URL: http://www.semiconductors.philips.com/acrobat/datasheets/BC807_BC807W_BC327_5.pdf
footprint SOT323 (SOT-323/SC-70; 3 Leads; Body 2.2 x 2.2 mm, inc. leads (LxW max))
simulation model QBC807W (PNP)
signal-integrity model BC807W
pins: 1 B, 2 E, 3 C

## BC817
designator Q?
NPN General-purpose Transistor; Published: 17-Sep-2003; DatasheetVersion: Jun-1999; PackageVersion: May-1999; PackageReference: SOT23; Publisher: Altium Limited; PackageDescription: SOT-23; 3 Leads; Body 3.0 x 2.5 mm, inc. leads (LxW max); ComponentLink1Description: Manufacturer Link; ComponentLink1URL: http://www.semiconductors.philips.com/; ComponentLink2Description: Datasheet; ComponentLink2URL: http://www.semiconductors.philips.com/acrobat/datasheets/BC817_BC817W_BC337_5.pdf
footprint SOT23 (SOT-23; 3 Leads; Body 3.0 x 2.5 mm, inc. leads (LxW max))
simulation model QBC817 (NPN)
signal-integrity model BC817
pins: 1 B, 2 E, 3 C

## BC817-16
designator Q?
NPN General-purpose Transistor; Published: 17-Sep-2003; DatasheetVersion: Jun-1999; PackageVersion: May-1999; PackageReference: SOT23; Publisher: Altium Limited; PackageDescription: SOT-23; 3 Leads; Body 3.0 x 2.5 mm, inc. leads (LxW max); ComponentLink1Description: Manufacturer Link; ComponentLink1URL: http://www.semiconductors.philips.com/; ComponentLink2Description: Datasheet; ComponentLink2URL: http://www.semiconductors.philips.com/acrobat/datasheets/BC817_BC817W_BC337_5.pdf
footprint SOT23 (SOT-23; 3 Leads; Body 3.0 x 2.5 mm, inc. leads (LxW max))
simulation model QBC817-16 (NPN)
signal-integrity model BC817-16
pins: 1 B, 2 E, 3 C

## BC817-16W
designator Q?
NPN General-purpose Transistor; Published: 17-Sep-2003; DatasheetVersion: 15-Apr-1999; PackageVersion: Apr-1999; PackageReference: SOT323; Publisher: Altium Limited; PackageDescription: SOT-323/SC-70; 3 Leads; Body 2.2 x 2.2 mm, inc. leads (LxW max); ComponentLink1Description: Manufacturer Link; ComponentLink1URL: http://www.semiconductors.philips.com/; ComponentLink2Description: Datasheet; ComponentLink2URL: http://www.semiconductors.philips.com/acrobat/datasheets/BC817_BC817W_BC337_5.pdf
footprint SOT323 (SOT-323/SC-70; 3 Leads; Body 2.2 x 2.2 mm, inc. leads (LxW max))
simulation model QBC817-16W (NPN)
signal-integrity model BC817-16W
pins: 1 B, 2 E, 3 C

## BC817-25
designator Q?
NPN General-purpose Transistor; Published: 17-Sep-2003; DatasheetVersion: Jun-1999; PackageVersion: May-1999; PackageReference: SOT23; Publisher: Altium Limited; PackageDescription: SOT-23; 3 Leads; Body 3.0 x 2.5 mm, inc. leads (LxW max); ComponentLink1Description: Manufacturer Link; ComponentLink1URL: http://www.semiconductors.philips.com/; ComponentLink2Description: Datasheet; ComponentLink2URL: http://www.semiconductors.philips.com/acrobat/datasheets/BC817_BC817W_BC337_5.pdf
footprint SOT23 (SOT-23; 3 Leads; Body 3.0 x 2.5 mm, inc. leads (LxW max))
simulation model QBC817-25 (NPN)
signal-integrity model BC817-25
pins: 1 B, 2 E, 3 C

## BC817-25W
designator Q?
NPN General-purpose Transistor; Published: 17-Sep-2003; DatasheetVersion: 15-Apr-1999; PackageVersion: Apr-1999; PackageReference: SOT323; Publisher: Altium Limited; PackageDescription: SOT-323/SC-70; 3 Leads; Body 2.2 x 2.2 mm, inc. leads (LxW max); ComponentLink1Description: Manufacturer Link; ComponentLink1URL: http://www.semiconductors.philips.com/; ComponentLink2Description: Datasheet; ComponentLink2URL: http://www.semiconductors.philips.com/acrobat/datasheets/BC817_BC817W_BC337_5.pdf
footprint SOT323 (SOT-323/SC-70; 3 Leads; Body 2.2 x 2.2 mm, inc. leads (LxW max))
simulation model QBC817-25W (NPN)
signal-integrity model BC817-25W
pins: 1 B, 2 E, 3 C

## BC817-40
designator Q?
NPN General-purpose Transistor; Published: 17-Sep-2003; DatasheetVersion: Jun-1999; PackageVersion: May-1999; PackageReference: SOT23; Publisher: Altium Limited; PackageDescription: SOT-23; 3 Leads; Body 3.0 x 2.5 mm, inc. leads (LxW max); ComponentLink1Description: Manufacturer Link; ComponentLink1URL: http://www.semiconductors.philips.com/; ComponentLink2Description: Datasheet; ComponentLink2URL: http://www.semiconductors.philips.com/acrobat/datasheets/BC817_BC817W_BC337_5.pdf
footprint SOT23 (SOT-23; 3 Leads; Body 3.0 x 2.5 mm, inc. leads (LxW max))
simulation model QBC817-40 (NPN)
signal-integrity model BC817-40
pins: 1 B, 2 E, 3 C

## BC817-40W
designator Q?
NPN General-purpose Transistor; Published: 17-Sep-2003; DatasheetVersion: 15-Apr-1999; PackageVersion: Apr-1999; PackageReference: SOT323; Publisher: Altium Limited; PackageDescription: SOT-323/SC-70; 3 Leads; Body 2.2 x 2.2 mm, inc. leads (LxW max); ComponentLink1Description: Manufacturer Link; ComponentLink1URL: http://www.semiconductors.philips.com/; ComponentLink2Description: Datasheet; ComponentLink2URL: http://www.semiconductors.philips.com/acrobat/datasheets/BC817_BC817W_BC337_5.pdf
footprint SOT323 (SOT-323/SC-70; 3 Leads; Body 2.2 x 2.2 mm, inc. leads (LxW max))
simulation model QBC817-40W (NPN)
signal-integrity model BC817-40W
pins: 1 B, 2 E, 3 C

## BC817W
designator Q?
NPN General-purpose Transistor; Published: 17-Sep-2003; DatasheetVersion: 15-Apr-1999; PackageVersion: Apr-1999; PackageReference: SOT323; Publisher: Altium Limited; PackageDescription: SOT-323/SC-70; 3 Leads; Body 2.2 x 2.2 mm, inc. leads (LxW max); ComponentLink1Description: Manufacturer Link; ComponentLink1URL: http://www.semiconductors.philips.com/; ComponentLink2Description: Datasheet; ComponentLink2URL: http://www.semiconductors.philips.com/acrobat/datasheets/BC817_BC817W_BC337_5.pdf
footprint SOT323 (SOT-323/SC-70; 3 Leads; Body 2.2 x 2.2 mm, inc. leads (LxW max))
simulation model QBC817W (NPN)
signal-integrity model BC817W
pins: 1 B, 2 E, 3 C

## BC846
designator Q?
NPN General-purpose Transistor; Published: 17-Sep-2003; DatasheetVersion: 4-Feb-2002; PackageVersion: May-1999; PackageReference: SOT23; Publisher: Altium Limited; PackageDescription: SOT-23; 3 Leads; Body 3.0 x 2.5 mm, inc. leads (LxW max); ComponentLink1Description: Manufacturer Link; ComponentLink1URL: http://www.semiconductors.philips.com/; ComponentLink2Description: Datasheet; ComponentLink2URL: http://www.semiconductors.philips.com/acrobat/datasheets/BC846_BC847_BC848_5.pdf
footprint SOT23 (SOT-23; 3 Leads; Body 3.0 x 2.5 mm, inc. leads (LxW max))
simulation model QBC846 (NPN)
signal-integrity model BC846
pins: 1 B, 2 E, 3 C

## BC846A
designator Q?
NPN General-purpose Transistor; Published: 17-Sep-2003; DatasheetVersion: 4-Feb-2002; PackageVersion: May-1999; PackageReference: SOT23; Publisher: Altium Limited; PackageDescription: SOT-23; 3 Leads; Body 3.0 x 2.5 mm, inc. leads (LxW max); ComponentLink1Description: Manufacturer Link; ComponentLink1URL: http://www.semiconductors.philips.com/; ComponentLink2Description: Datasheet; ComponentLink2URL: http://www.semiconductors.philips.com/acrobat/datasheets/BC846_BC847_BC848_5.pdf
footprint SOT23 (SOT-23; 3 Leads; Body 3.0 x 2.5 mm, inc. leads (LxW max))
simulation model QBC846A (NPN)
signal-integrity model BC846A
pins: 1 B, 2 E, 3 C

## BC846AT
designator Q?
NPN General-purpose Transistor; Published: 17-Sep-2003; DatasheetVersion: 15-Nov-2000; PackageVersion: Apr-1999; PackageReference: SOT416; Publisher: Altium Limited; PackageDescription: SOT-416/SC-90/SC-75; 3 Leads; Body 1.8 x 1.8 mm, inc. leads (LxW max); ComponentLink1Description: Manufacturer Link; ComponentLink1URL: http://www.semiconductors.philips.com/; ComponentLink2Description: Datasheet; ComponentLink2URL: http://www.semiconductors.philips.com/acrobat/datasheets/BC846T_847T_SERIES_3.pdf
footprint SOT416 (SOT-416/SC-90/SC-75; 3 Leads; Body 1.8 x 1.8 mm, inc. leads (LxW max))
simulation model QBC846AT (NPN)
signal-integrity model BC846AT
pins: 1 B, 2 E, 3 C

## BC846AW
designator Q?
NPN General-purpose Transistor; Published: 17-Sep-2003; DatasheetVersion: 4-Feb-2002; PackageVersion: Apr-1999; PackageReference: SOT323; Publisher: Altium Limited; PackageDescription: SOT-323/SC-70; 3 Leads; Body 2.2 x 2.2 mm, inc. leads (LxW max); ComponentLink1Description: Manufacturer Link; ComponentLink1URL: http://www.semiconductors.philips.com/; ComponentLink2Description: Datasheet; ComponentLink2URL: http://www.semiconductors.philips.com/acrobat/datasheets/BC846W_BC847W_BC848W_4.pdf
footprint SOT323 (SOT-323/SC-70; 3 Leads; Body 2.2 x 2.2 mm, inc. leads (LxW max))
simulation model QBC846AW (NPN)
signal-integrity model BC846AW
pins: 1 B, 2 E, 3 C

## BC846B
designator Q?
NPN General-purpose Transistor; Published: 17-Sep-2003; DatasheetVersion: 4-Feb-2002; PackageVersion: May-1999; PackageReference: SOT23; Publisher: Altium Limited; PackageDescription: SOT-23; 3 Leads; Body 3.0 x 2.5 mm, inc. leads (LxW max); ComponentLink1Description: Manufacturer Link; ComponentLink1URL: http://www.semiconductors.philips.com/; ComponentLink2Description: Datasheet; ComponentLink2URL: http://www.semiconductors.philips.com/acrobat/datasheets/BC846_BC847_BC848_5.pdf
footprint SOT23 (SOT-23; 3 Leads; Body 3.0 x 2.5 mm, inc. leads (LxW max))
simulation model QBC846B (NPN)
signal-integrity model BC846B
pins: 1 B, 2 E, 3 C

## BC846BT
designator Q?
NPN General-purpose Transistor; Published: 17-Sep-2003; DatasheetVersion: 15-Nov-2000; PackageVersion: Apr-1999; PackageReference: SOT416; Publisher: Altium Limited; PackageDescription: SOT-416/SC-90/SC-75; 3 Leads; Body 1.8 x 1.8 mm, inc. leads (LxW max); ComponentLink1Description: Manufacturer Link; ComponentLink1URL: http://www.semiconductors.philips.com/; ComponentLink2Description: Datasheet; ComponentLink2URL: http://www.semiconductors.philips.com/acrobat/datasheets/BC846T_847T_SERIES_3.pdf
footprint SOT416 (SOT-416/SC-90/SC-75; 3 Leads; Body 1.8 x 1.8 mm, inc. leads (LxW max))
simulation model QBC846BT (NPN)
signal-integrity model BC846BT
pins: 1 B, 2 E, 3 C

## BC846BW
designator Q?
NPN General-purpose Transistor; Published: 17-Sep-2003; DatasheetVersion: 4-Feb-2002; PackageVersion: Apr-1999; PackageReference: SOT323; Publisher: Altium Limited; PackageDescription: SOT-323/SC-70; 3 Leads; Body 2.2 x 2.2 mm, inc. leads (LxW max); ComponentLink1Description: Manufacturer Link; ComponentLink1URL: http://www.semiconductors.philips.com/; ComponentLink2Description: Datasheet; ComponentLink2URL: http://www.semiconductors.philips.com/acrobat/datasheets/BC846W_BC847W_BC848W_4.pdf
footprint SOT323 (SOT-323/SC-70; 3 Leads; Body 2.2 x 2.2 mm, inc. leads (LxW max))
simulation model QBC846BW (NPN)
signal-integrity model BC846BW
pins: 1 B, 2 E, 3 C

## BC846S
designator Q?
NPN General-purpose Double Transistor; Published: 17-Sep-2003; DatasheetVersion: Sep-1999; PackageVersion: Feb-1997; PackageReference: SOT363; Publisher: Altium Limited; PackageDescription: SOT-363/SC-88; 6 Leads; Body 2.2 x 2.2 mm, inc. leads (LxW max); ComponentLink1Description: Manufacturer Link; ComponentLink1URL: http://www.semiconductors.philips.com/; ComponentLink2Description: Datasheet; ComponentLink2URL: http://www.semiconductors.philips.com/acrobat/datasheets/BC846S_2.pdf
footprint SOT363 (SOT-363/SC-88; 6 Leads; Body 2.2 x 2.2 mm, inc. leads (LxW max))
simulation model BC846S (NPN)
signal-integrity model BC846S
part A pins: 1 E, 2 B, 6 C
part B pins: 3 C, 4 E, 5 B

## BC846W
designator Q?
NPN General-purpose Transistor; Published: 17-Sep-2003; DatasheetVersion: 4-Feb-2002; PackageVersion: Apr-1999; PackageReference: SOT323; Publisher: Altium Limited; PackageDescription: SOT-323/SC-70; 3 Leads; Body 2.2 x 2.2 mm, inc. leads (LxW max); ComponentLink1Description: Manufacturer Link; ComponentLink1URL: http://www.semiconductors.philips.com/; ComponentLink2Description: Datasheet; ComponentLink2URL: http://www.semiconductors.philips.com/acrobat/datasheets/BC846W_BC847W_BC848W_4.pdf
footprint SOT323 (SOT-323/SC-70; 3 Leads; Body 2.2 x 2.2 mm, inc. leads (LxW max))
simulation model QBC846W (NPN)
signal-integrity model BC846W
pins: 1 B, 2 E, 3 C

## BC847
designator Q?
NPN General-purpose Transistor; Published: 17-Sep-2003; DatasheetVersion: 4-Feb-2002; PackageVersion: May-1999; PackageReference: SOT23; Publisher: Altium Limited; PackageDescription: SOT-23; 3 Leads; Body 3.0 x 2.5 mm, inc. leads (LxW max); ComponentLink1Description: Manufacturer Link; ComponentLink1URL: http://www.semiconductors.philips.com/; ComponentLink2Description: Datasheet; ComponentLink2URL: http://www.semiconductors.philips.com/acrobat/datasheets/BC846_BC847_BC848_5.pdf
footprint SOT23 (SOT-23; 3 Leads; Body 3.0 x 2.5 mm, inc. leads (LxW max))
simulation model QBC847 (NPN)
signal-integrity model BC847
pins: 1 B, 2 E, 3 C

## BC847A
designator Q?
NPN General-purpose Transistor; Published: 17-Sep-2003; DatasheetVersion: 4-Feb-2002; PackageVersion: May-1999; PackageReference: SOT23; Publisher: Altium Limited; PackageDescription: SOT-23; 3 Leads; Body 3.0 x 2.5 mm, inc. leads (LxW max); ComponentLink1Description: Manufacturer Link; ComponentLink1URL: http://www.semiconductors.philips.com/; ComponentLink2Description: Datasheet; ComponentLink2URL: http://www.semiconductors.philips.com/acrobat/datasheets/BC846_BC847_BC848_5.pdf
footprint SOT23 (SOT-23; 3 Leads; Body 3.0 x 2.5 mm, inc. leads (LxW max))
simulation model QBC847A (NPN)
signal-integrity model BC847A
pins: 1 B, 2 E, 3 C

## BC847AT
designator Q?
NPN General-purpose Transistor; Published: 17-Sep-2003; DatasheetVersion: 15-Nov-2000; PackageVersion: Apr-1999; PackageReference: SOT416; Publisher: Altium Limited; PackageDescription: SOT-416/SC-90/SC-75; 3 Leads; Body 1.8 x 1.8 mm, inc. leads (LxW max); ComponentLink1Description: Manufacturer Link; ComponentLink1URL: http://www.semiconductors.philips.com/; ComponentLink2Description: Datasheet; ComponentLink2URL: http://www.semiconductors.philips.com/acrobat/datasheets/BC846T_847T_SERIES_3.pdf
footprint SOT416 (SOT-416/SC-90/SC-75; 3 Leads; Body 1.8 x 1.8 mm, inc. leads (LxW max))
simulation model QBC847AT (NPN)
signal-integrity model BC847AT
pins: 1 B, 2 E, 3 C

## BC847AW
designator Q?
NPN General-purpose Transistor; Published: 17-Sep-2003; DatasheetVersion: 4-Feb-2002; PackageVersion: Apr-1999; PackageReference: SOT323; Publisher: Altium Limited; PackageDescription: SOT-323/SC-70; 3 Leads; Body 2.2 x 2.2 mm, inc. leads (LxW max); ComponentLink1Description: Manufacturer Link; ComponentLink1URL: http://www.semiconductors.philips.com/; ComponentLink2Description: Datasheet; ComponentLink2URL: http://www.semiconductors.philips.com/acrobat/datasheets/BC846W_BC847W_BC848W_4.pdf
footprint SOT323 (SOT-323/SC-70; 3 Leads; Body 2.2 x 2.2 mm, inc. leads (LxW max))
simulation model QBC847AW (NPN)
signal-integrity model BC847AW
pins: 1 B, 2 E, 3 C

## BC847B
designator Q?
NPN General-purpose Transistor; Published: 17-Sep-2003; DatasheetVersion: 4-Feb-2002; PackageVersion: May-1999; PackageReference: SOT23; Publisher: Altium Limited; PackageDescription: SOT-23; 3 Leads; Body 3.0 x 2.5 mm, inc. leads (LxW max); ComponentLink1Description: Manufacturer Link; ComponentLink1URL: http://www.semiconductors.philips.com/; ComponentLink2Description: Datasheet; ComponentLink2URL: http://www.semiconductors.philips.com/acrobat/datasheets/BC846_BC847_BC848_5.pdf
footprint SOT23 (SOT-23; 3 Leads; Body 3.0 x 2.5 mm, inc. leads (LxW max))
simulation model QBC847B (NPN)
signal-integrity model BC847B
pins: 1 B, 2 E, 3 C

## BC847BPN
designator Q?
NPN/PNP General-purpose Transistors; Published: 17-Sep-2003; DatasheetVersion: 26-Oct-2001; PackageVersion: Feb-1997; PackageReference: SOT363; Publisher: Altium Limited; PackageDescription: SOT-363/SC-88; 6 Leads; Body 2.2 x 2.2 mm, inc. leads (LxW max); ComponentLink1Description: Manufacturer Link; ComponentLink1URL: http://www.semiconductors.philips.com/; ComponentLink2Description: Datasheet; ComponentLink2URL: http://www.semiconductors.philips.com/acrobat/datasheets/BC847BPN_3.pdf
footprint SOT363 (SOT-363/SC-88; 6 Leads; Body 2.2 x 2.2 mm, inc. leads (LxW max))
simulation model BC847BPN (SUBCKT)
signal-integrity model BC847BPN
pins: 1 E1, 2 B1, 3 C2, 4 E2, 5 B2, 6 C1

## BC847BS
designator Q?
NPN General-purpose Double Transistor; Published: 17-Sep-2003; DatasheetVersion: 28-Apr-1999; PackageVersion: Feb-1997; PackageReference: SOT363; Publisher: Altium Limited; PackageDescription: SOT-363/SC-88; 6 Leads; Body 2.2 x 2.2 mm, inc. leads (LxW max); ComponentLink1Description: Manufacturer Link; ComponentLink1URL: http://www.semiconductors.philips.com/; ComponentLink2Description: Datasheet; ComponentLink2URL: http://www.semiconductors.philips.com/acrobat/datasheets/BC847BS_2.pdf
footprint SOT363 (SOT-363/SC-88; 6 Leads; Body 2.2 x 2.2 mm, inc. leads (LxW max))
simulation model BC847BS (NPN)
signal-integrity model BC847BS
part A pins: 1 E, 2 B, 6 C
part B pins: 3 C, 4 E, 5 B